# Altium integrated library FPGA.IntLib: 1 symbol
Pins are listed as number, name and electrical type; pins without a type are passive.

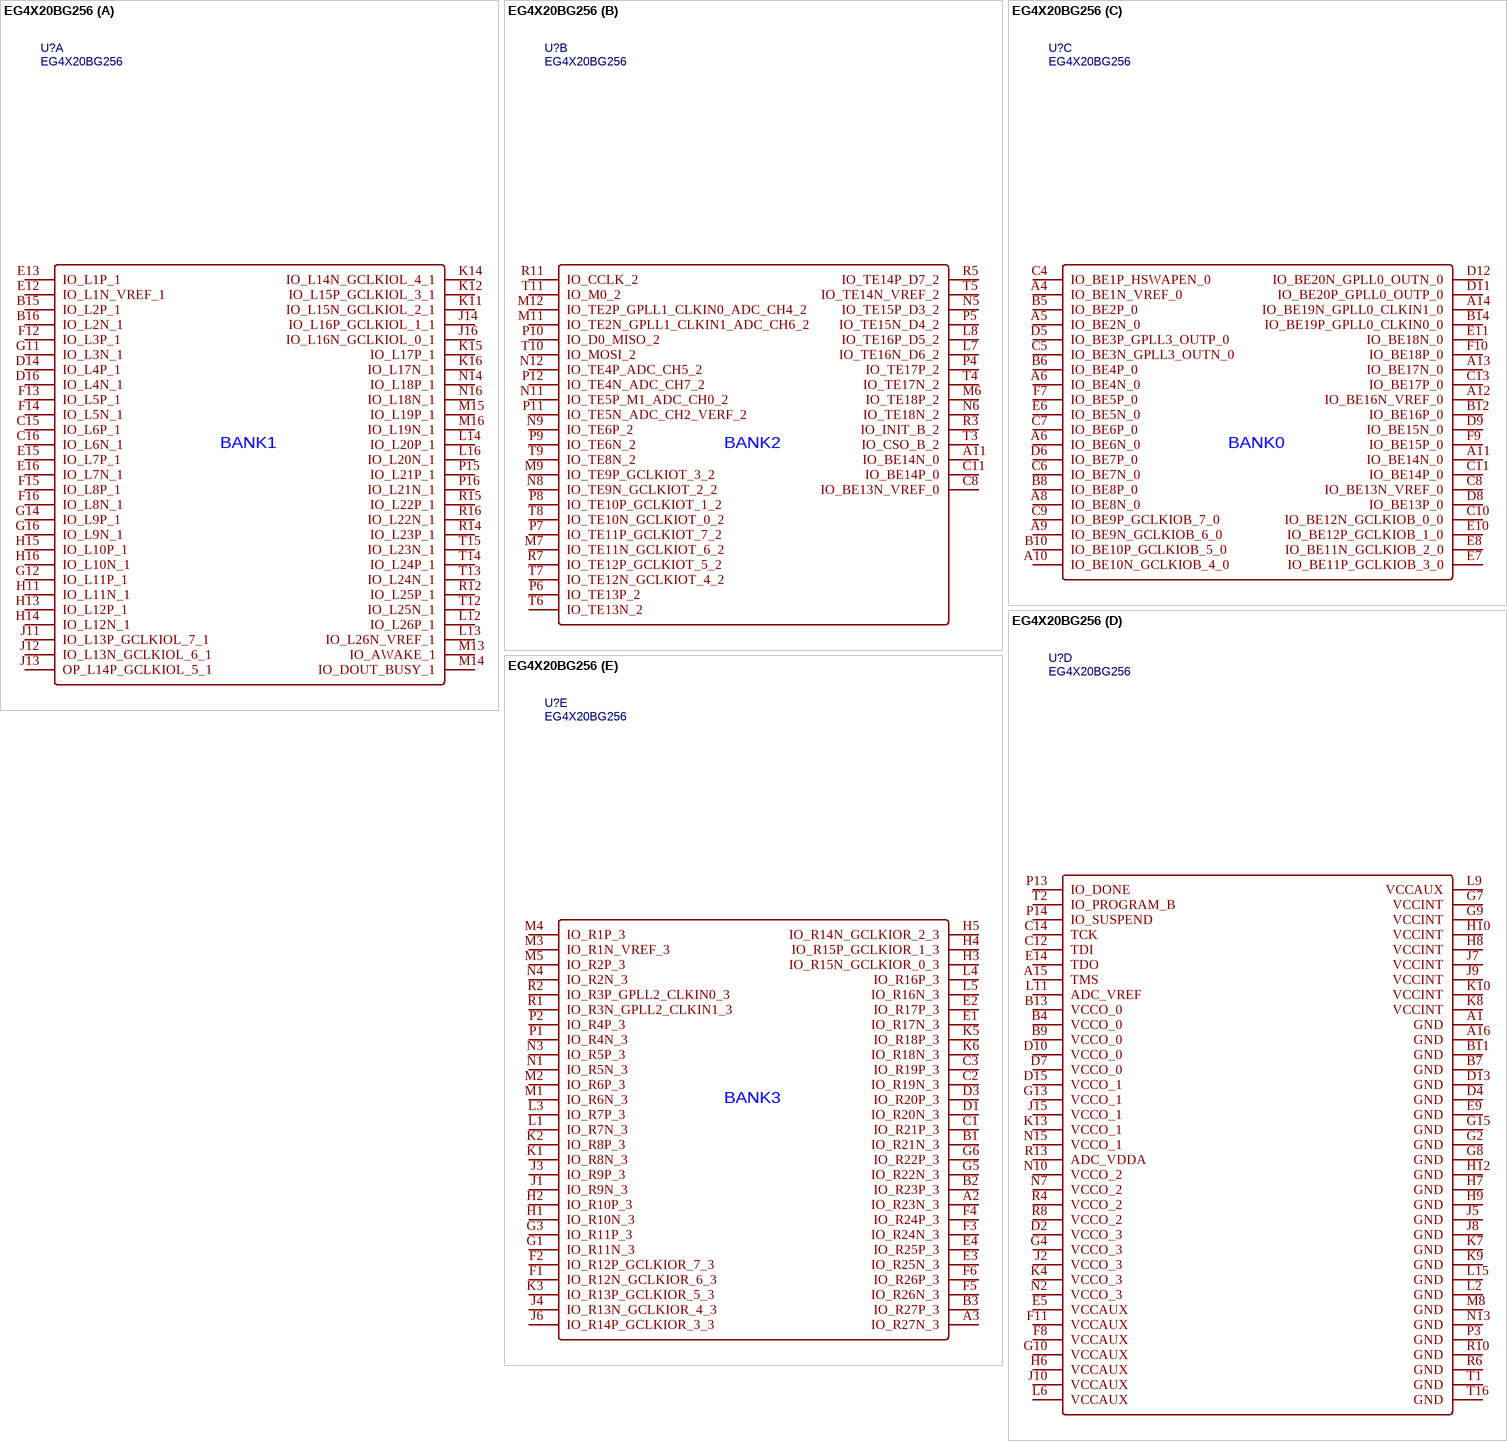
[diagram p0: symbol EG4X20BG256]

## EG4X20BG256
designator U?
BOM_Manufacturer: An Road, Shanghai Info Tech; subpart_no: 3; Contributor: LCSC; BOM_Supplier: LCSC; BOM_Supplier Part: C134197; BOM_Manufacturer Part: EG4X20BG256; BOM_JLCPCB Part Class: Extended Part; spicePre: U; spiceSymbolName: EG4X20BG256
footprint BGA_17x17mm_P1.0mm_256P (BGA, 100-Leads, Body 17.00x17.00mmx1.40mm, Pitch 1.00mm)
part A pins: B15 IO_L2P_1, B16 IO_L2N_1, C15 IO_L6P_1, C16 IO_L6N_1, D14 IO_L4P_1, D16 IO_L4N_1, E12 IO_L1N_VREF_1, E13 IO_L1P_1, E15 IO_L7P_1, E16 IO_L7N_1, F12 IO_L3P_1, F13 IO_L5P_1, F14 IO_L5N_1, F15 IO_L8P_1, F16 IO_L8N_1, G11 IO_L3N_1, G12 IO_L11P_1, G14 IO_L9P_1, G16 IO_L9N_1, H11 IO_L11N_1, H13 IO_L12P_1, H14 IO_L12N_1, H15 IO_L10P_1, H16 IO_L10N_1, J11 IO_L13P_GCLKIOL_7_1, J12 IO_L13N_GCLKIOL_6_1, J13 OP_L14P_GCLKIOL_5_1, J14 IO_L16P_GCLKIOL_1_1, J16 IO_L16N_GCLKIOL_0_1, K11 IO_L15N_GCLKIOL_2_1, K12 IO_L15P_GCLKIOL_3_1, K14 IO_L14N_GCLKIOL_4_1, K15 IO_L17P_1, K16 IO_L17N_1, L12 IO_L26P_1, L13 IO_L26N_VREF_1, L14 IO_L20P_1, L16 IO_L20N_1, M13 IO_AWAKE_1, M14 IO_DOUT_BUSY_1, M15 IO_L19P_1, M16 IO_L19N_1, N14 IO_L18P_1, N16 IO_L18N_1, P15 IO_L21P_1, P16 IO_L21N_1, R12 IO_L25P_1, R14 IO_L23P_1, R15 IO_L22P_1, R16 IO_L22N_1, T12 IO_L25N_1, T13 IO_L24N_1, T14 IO_L24P_1, T15 IO_L23N_1
part B pins: A11 IO_BE14N_0, C8 IO_BE13N_VREF_0, C11 IO_BE14P_0, L7 IO_TE16N_D6_2, L8 IO_TE16P_D5_2, M6 IO_TE18P_2, M7 IO_TE11N_GCLKIOT_6_2, M9 IO_TE9P_GCLKIOT_3_2, M11 IO_TE2N_GPLL1_CLKIN1_ADC_CH6_2, M12 IO_TE2P_GPLL1_CLKIN0_ADC_CH4_2, N5 IO_TE15P_D3_2, N6 IO_TE18N_2, N8 IO_TE9N_GCLKIOT_2_2, N9 IO_TE6P_2, N11 IO_TE5P_M1_ADC_CH0_2, N12 IO_TE4P_ADC_CH5_2, P4 IO_TE17P_2, P5 IO_TE15N_D4_2, P6 IO_TE13P_2, P7 IO_TE11P_GCLKIOT_7_2, P8 IO_TE10P_GCLKIOT_1_2, P9 IO_TE6N_2, P10 IO_D0_MISO_2, P11 IO_TE5N_ADC_CH2_VERF_2, P12 IO_TE4N_ADC_CH7_2, R3 IO_INIT_B_2, R5 IO_TE14P_D7_2, R7 IO_TE12P_GCLKIOT_5_2, R11 IO_CCLK_2, T3 IO_CSO_B_2, T4 IO_TE17N_2, T5 IO_TE14N_VREF_2, T6 IO_TE13N_2, T7 IO_TE12N_GCLKIOT_4_2, T8 IO_TE10N_GCLKIOT_0_2, T9 IO_TE8N_2, T10 IO_MOSI_2, T11 IO_M0_2
part C pins: A4 IO_BE1N_VREF_0, A5 IO_BE2N_0, A6 IO_BE4N_0, A6 IO_BE6N_0, A8 IO_BE8N_0, A9 IO_BE9N_GCLKIOB_6_0, A10 IO_BE10N_GCLKIOB_4_0, A11 IO_BE14N_0, A12 IO_BE16N_VREF_0, A13 IO_BE17N_0, A14 IO_BE19N_GPLL0_CLKIN1_0, B5 IO_BE2P_0, B6 IO_BE4P_0, B8 IO_BE8P_0, B10 IO_BE10P_GCLKIOB_5_0, B12 IO_BE16P_0, B14 IO_BE19P_GPLL0_CLKIN0_0, C4 IO_BE1P_HSWAPEN_0, C5 IO_BE3N_GPLL3_OUTN_0, C6 IO_BE7N_0, C7 IO_BE6P_0, C8 IO_BE13N_VREF_0, C9 IO_BE9P_GCLKIOB_7_0, C10 IO_BE12N_GCLKIOB_0_0, C11 IO_BE14P_0, C13 IO_BE17P_0, D5 IO_BE3P_GPLL3_OUTP_0, D6 IO_BE7P_0, D8 IO_BE13P_0, D9 IO_BE15N_0, D11 IO_BE20P_GPLL0_OUTP_0, D12 IO_BE20N_GPLL0_OUTN_0, E6 IO_BE5N_0, E7 IO_BE11P_GCLKIOB_3_0, E8 IO_BE11N_GCLKIOB_2_0, E10 IO_BE12P_GCLKIOB_1_0, E11 IO_BE18N_0, F7 IO_BE5P_0, F9 IO_BE15P_0, F10 IO_BE18P_0
part D pins: A1 GND, A15 TMS, A16 GND, B4 VCCO_0, B7 GND, B9 VCCO_0, B11 GND, B13 VCCO_0, C12 TDI, C14 TCK, D2 VCCO_3, D4 GND, D7 VCCO_0, D10 VCCO_0, D13 GND, D15 VCCO_1, E5 VCCAUX, E9 GND, E14 TDO, F8 VCCAUX, F11 VCCAUX, G2 GND, G4 VCCO_3, G7 VCCINT, G8 GND, G9 VCCINT, G10 VCCAUX, G13 VCCO_1, G15 GND, H6 VCCAUX, H7 GND, H8 VCCINT, H9 GND, H10 VCCINT, H12 GND, J2 VCCO_3, J5 GND, J7 VCCINT, J8 GND, J9 VCCINT, J10 VCCAUX, J15 VCCO_1, K4 VCCO_3, K7 GND, K8 VCCINT, K9 GND, K10 VCCINT, K13 VCCO_1, L2 GND, L6 VCCAUX, L9 VCCAUX, L11 ADC_VREF, L15 GND, M8 GND, N2 VCCO_3, N7 VCCO_2, N10 VCCO_2, N13 GND, N15 VCCO_1, P3 GND, P13 IO_DONE, P14 IO_SUSPEND, R4 VCCO_2, R6 GND, R8 VCCO_2, R10 GND, R13 ADC_VDDA, T1 GND, T2 IO_PROGRAM_B, T16 GND
part E pins: A2 IO_R23N_3, A3 IO_R27N_3, B1 IO_R21N_3, B2 IO_R23P_3, B3 IO_R27P_3, C1 IO_R21P_3, C2 IO_R19N_3, C3 IO_R19P_3, D1 IO_R20N_3, D3 IO_R20P_3, E1 IO_R17N_3, E2 IO_R17P_3, E3 IO_R25N_3, E4 IO_R25P_3, F1 IO_R12N_GCLKIOR_6_3, F2 IO_R12P_GCLKIOR_7_3, F3 IO_R24N_3, F4 IO_R24P_3, F5 IO_R26N_3, F6 IO_R26P_3, G1 IO_R11N_3, G3 IO_R11P_3, G5 IO_R22N_3, G6 IO_R22P_3, H1 IO_R10N_3, H2 IO_R10P_3, H3 IO_R15N_GCLKIOR_0_3, H4 IO_R15P_GCLKIOR_1_3, H5 IO_R14N_GCLKIOR_2_3, J1 IO_R9N_3, J3 IO_R9P_3, J4 IO_R13N_GCLKIOR_4_3, J6 IO_R14P_GCLKIOR_3_3, K1 IO_R8N_3, K2 IO_R8P_3, K3 IO_R13P_GCLKIOR_5_3, K5 IO_R18P_3, K6 IO_R18N_3, L1 IO_R7N_3, L3 IO_R7P_3, L4 IO_R16P_3, L5 IO_R16N_3, M1 IO_R6N_3, M2 IO_R6P_3, M3 IO_R1N_VREF_3, M4 IO_R1P_3, M5 IO_R2P_3, N1 IO_R5N_3, N3 IO_R5P_3, N4 IO_R2N_3, P1 IO_R4N_3, P2 IO_R4P_3, R1 IO_R3N_GPLL2_CLKIN1_3, R2 IO_R3P_GPLL2_CLKIN0_3
part A text: BANK1
part B text: BANK2
part C text: BANK0
part E text: BANK3